# Altium footprint library RcCon.PcbLib: 4 footprints
Each footprint in its own frame and in the unit in brackets; x right, y up, seen from the top. Pads: shape width x height; smd on the part's side, far side on the other; paste and mask are expansions set on the pad; w line width, h text height; cw(c..) or ccw(c..) is an arc to the next point about the centre after c.
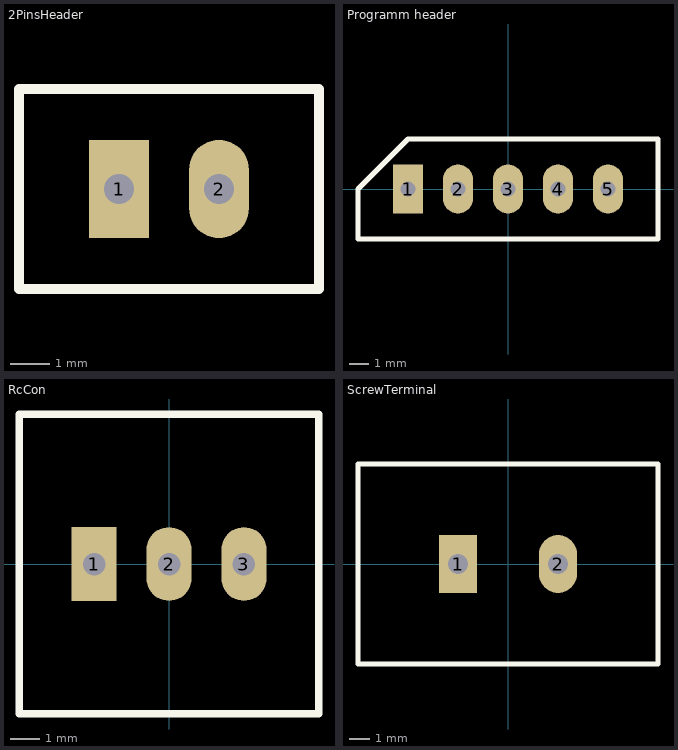
[diagram p0: the footprints below, top view; thin cyan lines are the x and y axes]

## 2PinsHeader [mil]
pads (2):
  rect 60x98.43 hole 30: 1(600,300)
  oval 60x98.43 hole 30: 2(700,300)
Top Overlay:
  lines w10: 500,200 600,200 800,200 800,400 500,400 500,300 500,200

## Programm header [mil]
pads (5):
  rect 60x98.43 hole 30: 1(-200,0)
  oval 60x98.43 hole 30: 2(-100,0) 3(0,0) 4(100,0) 5(200,0)
Top Overlay:
  lines w10: -300,-100 300,-100 300,100 -200,100 -300,0 -300,-100

## RcCon [mil]
pads (3):
  rect 60x98.43 hole 30: 1(-100,0)
  oval 60x98.43 hole 30: 2(0,0) 3(100,0)
Top Overlay:
  lines w10: -200,-200 200,-200 200,-100 200,200 -200,200 -200,0 -200,-100 -200,-200

## ScrewTerminal [mm]
pads (2):
  rect 1.9x2.9 hole 1: 1(-2.5,0)
  oval 1.9x2.9 hole 1: 2(2.5,0)
Top Overlay:
  lines w0.254: -7.5,-5 -7.5,5 7.5,5 7.5,-5 -7.5,-5